# Altium schematic symbol library Button.SchLib: 8 symbols
Pins are listed as number, name and electrical type; pins without a type are passive.

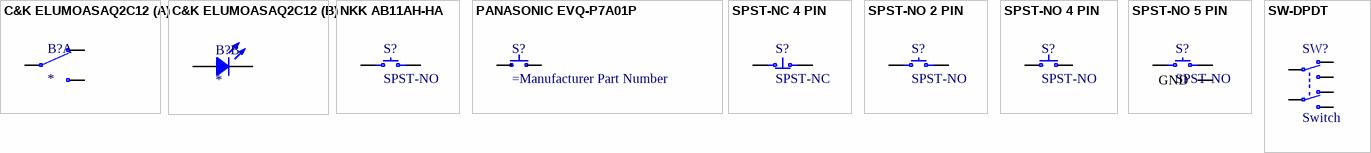
[diagram p0: symbols C&K ELUMOASAQ2C12 to SW-DPDT]

## C&K ELUMOASAQ2C12
designator B?
part A pins: 2 NO, 3 C, 4 NC
part B pins: 1 C, 5 A

## NKK AB11AH-HA
designator S?, comment SPST-NO
footprint NKK AB11AH-HA
footprint NKK AB11AH-HC
footprint TE FSM4JSMA
footprint TE FSM6JSMA
pins: 1, 3

## PANASONIC EVQ-P7A01P
designator S?
footprint PANASONIC EVQ-P7A01P
pins: 1, 2

## SPST-NC 4 PIN
designator S?, comment SPST-NC
footprint NKK AB11AH-HA
footprint NKK AB11AH-HC
footprint TE FSM4JSMA
footprint TE FSM6JSMA
pins: 1, 2, 3, 4

## SPST-NO 2 PIN
designator S?, comment SPST-NO
footprint C&K KXT
footprint ESWITCH TL3750
footprint Panasonic EVPAW
footprint TE FSMSMTR
pins: 1, 2

## SPST-NO 4 PIN
designator S?, comment SPST-NO
footprint NKK AB11AH-HA
footprint NKK AB11AH-HC
footprint TE FSM4JSMA
footprint TE FSM6JSMA
footprint C&K PTS526SMG15SMTR2LFS
pins: 1, 2, 3, 4

## SPST-NO 5 PIN
designator S?, comment SPST-NO
footprint C&K ELUMOASAQ2C12
footprint TE FSM1LPATR
pins: 1, 2, 3, 4, 5 GND

## SW-DPDT
designator SW?, comment Switch
SMD slide Switch (ON-ON); Part Number: Switch-Slide-DPDT-8.5x3.6mm; Manufacturer: Dailywell; Manufacturer Part Number: SS206VM-G2-LLR-R; 2nd source part number: 401-2002-1-ND; Artikkelnr Noca: 50019107; Artikkelnr Simpro: N.A.; Datasheet: \\hizz\pro\app9717\Datasheet\switches\Daliywell\SS206VM-G2-LLR-R.pdf; Footprint Doc: Switch-Slide-DPDT-8.5x3.6mm; LatestRevisionDate: 2016-04-21; Pin Count: 6; Publisher: Nordic Semiconductor; Published: 2014-06-24; Value: Switch; Note: *; Supplier: Cabcon; Supplier part number: SS206VM-G2-LLR-R; 2nd source Supplier: Digi-Key
pins: 1 N.O-1, 2 COM-1, 3 N.C-1, 4 N.O-2, 5 COM-2, 6 N.C-2